# Altium integrated library T1_Card.IntLib: 128 symbols (part 1 of 3)
Pins are listed as number, name and electrical type; pins without a type are passive.

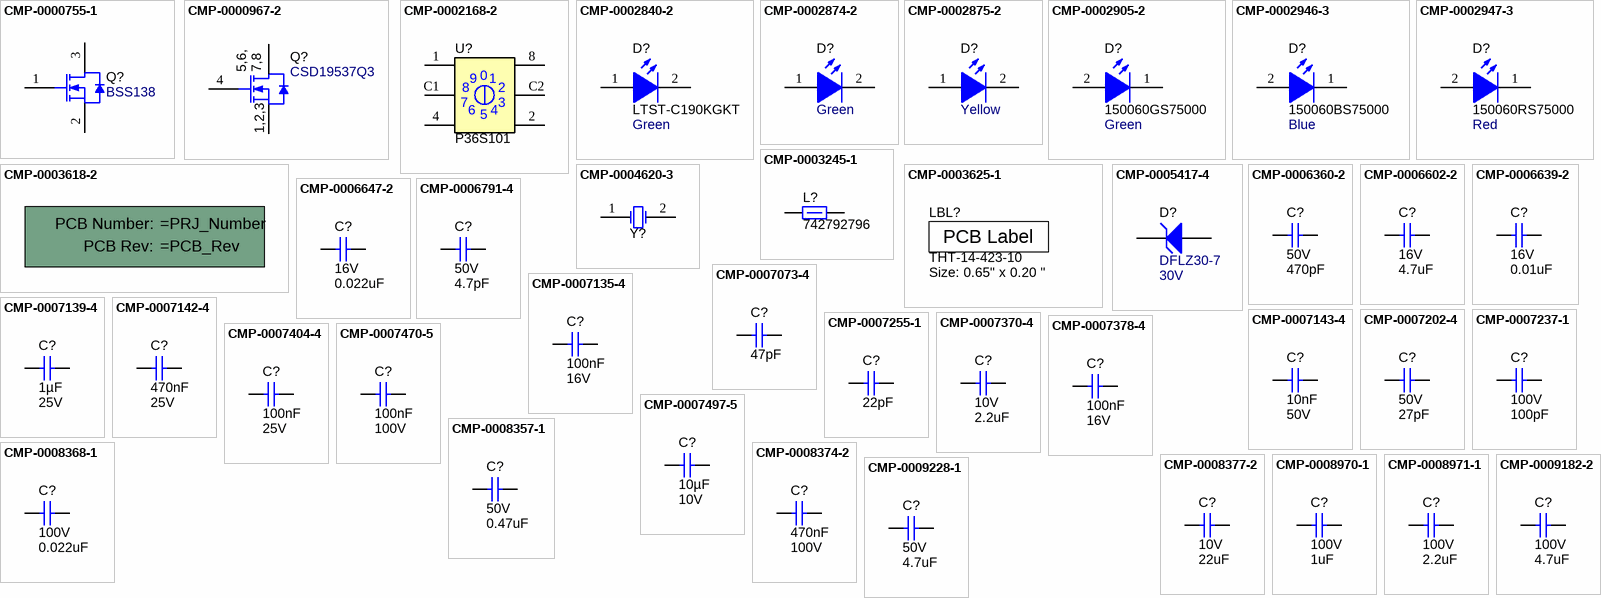
[diagram p0: symbols CMP-0000755-1 to CMP-0009228-1]

## CMP-0000755-1
designator Q?, comment BSS138
MOSFET, N-CH, 50 V, 0.22 A, SOT-23; Alternate Manufacturer: None; Manufacturer: Fairchild Semiconductor; SizeZ_mm: 1.1; ChType: N; Value2: 1.7 nC; VdsMax_V: 50V; SizeX_mm: 2.5; SizeY_mm: 3; Vgs_V: 20V; Value: 50V; Rdson45_ohm: 6; SizeArea_mm2: 7.5; AEC Category: Q101; IdsMax_A: 220mA; SizeAreaWB_mm2: 14; U/M: EA; QgTyp_nC: 1.7; Supplier 2: Newark; Supplier 3: Mouser; Supplier 1: Digi-Key; Supplier Part Number 1: BSS138CT-ND; Supplier Part Number 2: 58K8769; PartNumber: BSS138; ComponentLink1Description: Datasheet link; LatestRevisionDate: 2017-03-09; ComponentLink1URL: http://www.fairchildsemi.com/ds/BS/BSS138.pdf; CompType: MOSFET; PackageReference: SOT-23; LatestRevisionNote: Added parts.; Publisher: Texas Instruments; AEC Qualified: ?; Published: 2008-06-19; Supplier Part Number 3: 512-BSS138; RoHS: Y; MountType: SMT
footprint SOT-23 (SOT23, 3-Leads, Body 2.9x1.3mm, Pitch 0.95mm, Lead Span 2.5mm, IPC Medium Density)
footprint SOT-23L (SOT23, 3-Leads, Body 2.9x1.3mm, Pitch 0.95mm, Lead Span 2.5mm, IPC High Density)
footprint SOT-23M (SOT23, 3-Leads, Body 2.9x1.3mm, Pitch 0.95mm, Lead Span 2.5mm, IPC Low Density)
pins: 1 G, 2 S, 3 D

## CMP-0000967-2
designator Q?, comment CSD19537Q3
MOSFET, N-CH, 100 V, 50 A, DQG0008A (VSON-CLIP-8); Alternate Manufacturer: None; Manufacturer: Texas Instruments; SizeZ_mm: 1.1; ChType: N; Value2: 16 nC; VdsMax_V: 100V; SizeX_mm: 3.3; Vgs_V: 20V; QgTyp_nC: 16; Value: 100V; SizeArea_mm2: 10.89; AEC Category: Q101; IdsMax_A: 50A; SizeAreaWB_mm2: 18.49; U/M: EA; Supplier 2: Mouser; Supplier 1: Digi-Key; Supplier Part Number 1: CSD19537Q3-ND; Supplier Part Number 2: 595-CSD19537Q3; PartNumber: CSD19537Q3; ComponentLink1Description: Datasheet link; LatestRevisionDate: 2017-03-09; SizeY_mm: 3.3; CompType: MOSFET; LatestRevisionNote: Added parts.; Publisher: Texas Instruments; AEC Qualified: N; Published: 2008-06-19; RoHS: Y; PackageReference: DQG0008A; MountType: SMT; ComponentLink1URL: http://www.ti.com/lit/ds/symlink/csd19537q3.pdf
footprint DQG0008A (SMD, 8-Leads, Body 3.3x3.3mm, Pitch 0.65mm)
footprint DQG0008A_NV (SMD, 8-Leads, Body 3.3x3.3mm, Pitch 0.65mm)
pins: 1 S, 2 S, 3 S, 4 G, 5 D, 6 D, 7 D, 8 D, 9 D
text: 5,6,; 7,8; 1,2,3

## CMP-0002168-2
designator U?, comment P36S101
Switch, Rotary dip, 10POS, BCD, 24V, SMT; Manufacturer: APEM; CurrentRating_mA: 100A; PositionCount: 10; Supplier 2: Newark; Supplier 3: Mouser; Supplier 1: Digi-Key; Supplier Part Number 1: 679-1953-ND; Supplier Part Number 2: 92K8405; Supplier Part Number 3: 642-P36S101; PartNumber: P36S101; ComponentLink1Description: Datasheet URL; LatestRevisionDate: 2017-03-09; CompType: Switch; PackageReference: Switch, 7.4x3.8x7.4mm; Publisher: Texas Instruments; Circuit: BCD; VDC_V: 24V; RoHS: Y; Orientation: Top Actuated; MountType: SMT; ComponentLink1URL: http://www.apem.com/files/apem/brochures/P36.pdf
footprint Apem_P36S10x (Apem Inc.)
pins: 1, 2, 4, 8, C1, C2
text: 0; 9; 7; 3; 6; 5

## CMP-0002840-2
designator D?, comment LTST-C190KGKT  value Green
LED, Green, SMD; Manufacturer: Lite-On; Value1: W; Io_A: 30mA; Value2: 2V; Tjmax_C: 85°C; Type: AlInGaP; PartNumber: LTST-C190KGKT; MountType: SMT; CompType: LED; Color: green; ComponentLink1Description: Datasheet link; RoHS: Y; ComponentLink1URL: http://optoelectronics.liteon.com/en-us/api/DwonloadFileHandler.ashx?txtSpecNo=DS22-2000-074&txtPartNo=LTST-C190KGKT; Vf_V: 2V; PackageReference: 1.6x0.8x0.8mm
footprint LED_LTST-C190_G (Lite-On)
pins: 1 A, 2 K

## CMP-0002874-2
designator D?, comment value Green  (hidden comment: LG L29K-G2J1-24-Z)
LED, Green, SMD; Manufacturer: OSRAM; Io_A: 2mA; Value2: 1.7V; Value1: W; Tjmax_C: 110°C; RoHS: Y; PartNumber: LG L29K-G2J1-24-Z; Color: green; Type: ?; PackageReference: 1.7x0.65x0.8mm; ComponentLink1URL: http://www.osram-os.com/Graphics/XPic2/00077107_0.pdf; ComponentLink1Description: Datasheet link; Vf_V: 1.7V; CompType: LED; MountType: SMT
footprint LG L29K_GREEN (OSRAM)
pins: 1 A, 2 K

## CMP-0002875-2
designator D?, comment value Yellow  (hidden comment: LY L29K-J1K2-26-Z)
LED, Yellow, SMD; Manufacturer: OSRAM; Tjmax_C: 110°C; Value1: W; Value2: 1.8V; Io_A: 2mA; RoHS: Y; PackageReference: LED, 1.3x0.65x0.8mm; ComponentLink1URL: http://www.osram-os.com/Graphics/XPic1/00077106_0.pdf/LY%20%20%20%20%20%20L29K%20-%20SMARTLED%200603.pdf; CompType: LED; PartNumber: LY L29K-J1K2-26-Z; Color: yellow; Type: ?; Vf_V: 1.8V; ComponentLink1Description: Datasheet link; MountType: SMT
footprint LY L29K_Yellow (OSRAM)
pins: 1 A, 2 K

## CMP-0002905-2
designator D?, comment 150060GS75000  value Green
LED, Green, SMD; Manufacturer: Wurth Elektronik; Value1: W; Type: InGaN; Value2: 3.2V; Io_A: 20mA; Angle: 140; Tjmax_C: 85°C; Color: Green; Vf_V: 3.2V; PartNumber: 150060GS75000; ComponentLink1Description: Datasheet link; ComponentLink1URL: http://katalog.we-online.de/led/datasheet/150060GS75000.pdf; MountType: SMT; PackageReference: LED_0603; CompType: LED; RoHS: Y
footprint WL-SMCW_GREEN (WURTH)
pins: 1 K, 2 A

## CMP-0002946-3
designator D?, comment 150060BS75000  value Blue
LED, Blue, SMD; Manufacturer: Wurth Elektronik; Power_TotalModule: 105mW; Angle: 140; Tjmax_C: 85°C; Vf_V: 3.2V; Io_A: 30mA; Value1: 0.105W; Vr_V: 5V; Type: InGaN; CompType: LED; Color: Blue; RoHS: Y; PackageReference: LED_0603; MountType: SMT; PartNumber: 150060BS75000; ComponentLink1URL: http://katalog.we-online.de/led/datasheet/150060BS75000.pdf; Value2: 3.2V; ComponentLink1Description: Datasheet link
footprint WL-SMCW_Blue (SMD, 2-Leads, Body 1.6x0.8mm)
pins: 1 K, 2 A

## CMP-0002947-3
designator D?, comment 150060RS75000  value Red
LED, Red, SMD; Manufacturer: Wurth Elektronik; Value1: 0.072W; Vf_V: 2V; Angle: 140; Tjmax_C: 85°C; Type: AlInGaP; Vr_V: 5V; Io_A: 30mA; Power_TotalModule: 72mW; RoHS: Y; Color: Red; ComponentLink1Description: Datasheet link; PackageReference: LED_0603; ComponentLink1URL: http://katalog.we-online.de/led/datasheet/150060RS75000.pdf; Value2: 2V; MountType: SMT; CompType: LED; PartNumber: 150060RS75000
footprint WL-SMCW_RED (WURTH)
pins: 1 K, 2 A

## CMP-0003245-1
designator L?, comment 742792796
Ferrite Bead, 1000 ohm @ 100 MHz, 0.2 A, 0402; Manufacturer: Wurth Elektronik; Ztyp@1GHz_Ohm: 293.136; ZTyp@100MHz_Ohm: 1k; SizeAreaWB_mm2: 3; DCR_ohm: 1.5; Value1: 1.5 ohm; Imax_A: 200mA; SizeZ_mm: 0.6; SizeX_mm: 1; SizeY_mm: 0.5; Value2: 0.2A; ComponentLink1URL: http://katalog.we-online.de/pbs/datasheet/742792796.pdf; Supplier Part Number 2: 710-742792796; Publisher: Texas Instruments; Supplier 2: Mouser; Published: 2014-04-30; RoHS: Y; MountType: SMT; Value: 1000 ohm; Supplier 1: Digi-Key; PackageReference: 0402; SizeArea_mm2: 0.5; CompType: Ferrite Bead; LatestRevisionDate: 2017-03-09; PartNumber: 742792796; ComponentLink1Description: Datasheet link; Supplier Part Number 1: 732-2132-1-ND; ValueDisplayed: 1000 ohm
footprint 0402 (0402 from SM-752 data)
footprint 0402S (Based on C0402S footprint from PADS legacy)
footprint 0402L (0402 from SM-752 data)
footprint 0402M (0402 from SM-752 data)
pins: 1, 2

## CMP-0003618-2
designator !PCB?, comment Printed Circuit Board  (value not drawn)  (mechanical)
Manufacturer: Any; CompType: PCB; PartNumber: =PRJ_Number; RoHS: O; MountType: N/A; Publisher: Texas Instruments; LatestRevisionDate: 2017-03-09; Key: PCB
1 alternate drawing of the same symbol
text: PCB Number:; PCB Rev:

## CMP-0003625-1
designator LBL?, comment THT-14-423-10  Note: Size: 0.65" x 0.20 "
Thermal Transfer Printable Labels, 0.650" W x 0.200" H - 10,000 per roll; Manufacturer: Brady; CompType: Label; ClassName: Label; PartNumber: THT-14-423-10; RoHS: Y; PackageReference: PCB Label 0.650 x 0.200 inch; MountType: N/A; ComponentLink1Description: Web Page; ComponentLink1URL: http://www.bradyid.com/bradyid/pdpv/THT-14-423-10.html; Publisher: Texas Instruments; LatestRevisionDate: 2017-03-09; Supplier 1: Newark; Supplier Part Number 1: 97C5133; Supplier 2: Farnell; Supplier Part Number 2: 2065596; Key: THT-14-423-10
footprint Label_650x200 (Thermal Transfer Label)
text: PCB Label

## CMP-0004620-3
designator Y?, comment ABM3-25.000MHZ-D2Y-T  (value not drawn)
Crystal, 25 MHz, 18 pF, SMD; Manufacturer: Abracon Corporation; TaMin_C: -40°C; Frequency Stability: +/-30ppm; Frequency_Fixed: 25MHz; TaMax_C: 85°C; Supplier Part Number 2: 77R1477; Supplier 2: Newark; Supplier Part Number 3: 815-ABM3-25-D2Y-T; Supplier 3: Mouser; RoHS: E; MountType: SMT; Supplier 1: Digi-Key; PackageReference: ABM3; CompType: Crystal; PartNumber: ABM3-25.000MHZ-D2Y-T; ComponentLink1Description: Datasheet Link; Supplier Part Number 1: 535-10645-1-ND; ComponentLink1URL: http://www.abracon.com/Resonators/abm3.pdf; REACh: Y
footprint XTAL_ABM3 (Abracon recommended land pattern 12.28.10)
pins: 1 OSC1, 2 OSC2

## CMP-0005417-4
designator D?, comment DFLZ30-7  value 30V
Diode, Zener, 30 V, 1 W, PowerDI123; Manufacturer: Diodes Inc.; SizeX_mm: 3.7; Power_W: 1W; SizeY_mm: 1.78; AEC Category: Q101; RJA_CperW: 110; SizeArea_mm2: 6.586; SizeZ_mm: 0.98; SizeAreaWB_mm2: 13.066; AEC Qualified: ?; ComponentLink1Description: Datasheet link; MountType: SMT; Vz_V: 30V; Value1: 1W; ComponentLink1URL: http://www.diodes.com/datasheets/ds30464.pdf; PartNumber: DFLZ30-7; CompType: Zener; PackageReference: PowerDI123; RoHS: Y
footprint PowerDI123 (Diodes Inc recommended land pattern, document number DS30628 Rev. 6-2)
pins: 1 K, 2 A

## CMP-0006360-2
designator C?, comment VDC_V: 50V  ValueDisplayed: 470pF  (hidden comment: GCM155R71H471KA37D)
CAP, CERM, 470 pF, 50 V, +/- 10%, X7R, AEC-Q200 Grade 1, 0402; Manufacturer: MuRata; TaMin_C: -55°C; Polarized: N; SizeAreaWB_mm2: 3; Value1: Unknown; U/M: EA; Value: 470pF; TaMax_C: 125°C; SizeZ_mm: 0.6; SizeX_mm: 1; SizeY_mm: 0.5; Cap_Case: 0402; CompType: Capacitor; AEC Qualified: Y; AEC Category: Q200; Supplier Part Number 2: 81-GCM155R71H471K37D; Publisher: Texas Instruments; Supplier 2: Mouser; TempCo: X7R; Published: 2008-06-19; RoHS: Y; MountType: SMT; Supplier 1: Digi-Key; PackageReference: 0402; Tolerance_%: 10%; Value2: 50V; SizeArea_mm2: 0.5; LatestRevisionDate: 2017-03-09; PartNumber: GCM155R71H471KA37D; Cap_F: 470pF; ComponentLink1Description: Datasheet link; AEC Grade: 1; Supplier Part Number 1: 490-4913-1-ND; Technology: Ceramic; ComponentLink1URL: http://psearch.murata.com/capacitor/product/GCM155R71H471KA37%23.pdf
footprint 0402 (0402 from SM-752 data)
footprint 0402S (Based on C0402S footprint from PADS legacy)
footprint 0402L (0402 from SM-752 data)
footprint 0402M (0402 from SM-752 data)
pins: 1, 2

## CMP-0006602-2
designator C?, comment VDC_V: 16V  ValueDisplayed: 4.7uF  (hidden comment: GRM155R61C475ME15)
CAP, CERM, 4.7 uF, 16 V, +/- 20%, X5R, 0402; Manufacturer: MuRata; TaMin_C: -55°C; Polarized: N; SizeAreaWB_mm2: 3; Value1: Unknown; U/M: EA; Value: 4.7uF; TaMax_C: 85°C; SizeZ_mm: 0.6; SizeX_mm: 1; SizeY_mm: 0.5; Cap_Case: 0402; CompType: Capacitor; Cap_F: 4.7µF; AEC Category: Q200; Publisher: Texas Instruments; TempCo: X5R; Published: 2008-06-19; RoHS: Y; MountType: SMT; PackageReference: 0402; Tolerance_%: 20%; Value2: 16V; SizeArea_mm2: 0.5; LatestRevisionDate: 2017-03-09; PartNumber: GRM155R61C475ME15; AEC Qualified: ?; ComponentLink1Description: Datasheet link; Technology: Ceramic; ComponentLink1URL: https://sps06.itg.ti.com/sites/KMS/crossdivteams/altium/docs/ComponentDatasheets/CIN_GRM155R61C475ME15 Electrical Characteristics Data.pdf
footprint 0402 (0402 from SM-752 data)
footprint 0402S (Based on C0402S footprint from PADS legacy)
footprint 0402L (0402 from SM-752 data)
footprint 0402M (0402 from SM-752 data)
pins: 1, 2

## CMP-0006639-2
designator C?, comment VDC_V: 16V  ValueDisplayed: 0.01uF  (hidden comment: GRM155R71C103KA01D)
CAP, CERM, 0.01 uF, 16 V, +/- 10%, X7R, 0402; Manufacturer: MuRata; TaMin_C: -55°C; Polarized: N; SizeAreaWB_mm2: 3; Value1: Unknown; U/M: EA; Value: 0.01uF; TaMax_C: 125°C; SizeZ_mm: 0.6; SizeX_mm: 1; SizeY_mm: 0.5; Cap_Case: 0402; CompType: Capacitor; Cap_F: 10nF; AEC Category: Q200; Supplier Part Number 2: 14T3279; Publisher: Texas Instruments; Supplier 2: Newark; Supplier Part Number 3: 81-GRM36X103K16; TempCo: X7R; Supplier 3: Mouser; Published: 2008-06-19; RoHS: Y; MountType: SMT; Supplier 1: Digi-Key; PackageReference: 0402; Tolerance_%: 10%; Value2: 16V; SizeArea_mm2: 0.5; LatestRevisionDate: 2017-03-09; PartNumber: GRM155R71C103KA01D; AEC Qualified: ?; ComponentLink1Description: Datasheet link; Supplier Part Number 1: 490-1313-1-ND; Technology: Ceramic; ComponentLink1URL: http://search.murata.co.jp/Ceramy/PnsearchViewAction.do?HnOFG=ON&HnNFG=ON&SEL_CNT=50&sLang=en&sKey=GRM155R71C103KA01D&x=9&y=9&search=startwith
footprint 0402 (0402 from SM-752 data)
footprint 0402S (Based on C0402S footprint from PADS legacy)
footprint 0402L (0402 from SM-752 data)
footprint 0402M (0402 from SM-752 data)
pins: 1, 2

## CMP-0006647-2
designator C?, comment VDC_V: 16V  ValueDisplayed: 0.022uF  (hidden comment: GRM155R71C223KA01D)
CAP, CERM, 0.022 uF, 16 V, +/- 10%, X7R, 0402; Manufacturer: MuRata; TaMin_C: -55°C; Polarized: N; SizeAreaWB_mm2: 3; Value1: Unknown; U/M: EA; TaMax_C: 125°C; SizeZ_mm: 0.6; SizeX_mm: 1; SizeY_mm: 0.5; Cap_Case: 0402; CompType: Capacitor; Cap_F: 22nF; AEC Category: Q200; Supplier Part Number 2: 81-GRM36X223K16; Publisher: Texas Instruments; Supplier 2: Mouser; Supplier Part Number 3: 1828865; TempCo: X7R; Supplier 3: Farnell; Published: 2008-06-19; RoHS: Y; MountType: SMT; Value: 0.022uF; Supplier 1: Digi-Key; PackageReference: 0402; Tolerance_%: 10%; Value2: 16V; SizeArea_mm2: 0.5; LatestRevisionDate: 2017-03-09; PartNumber: GRM155R71C223KA01D; AEC Qualified: ?; ComponentLink1Description: Datasheet link; Supplier Part Number 1: 490-3256-1-ND; Technology: Ceramic; ComponentLink1URL: http://search.murata.co.jp/Ceramy/PnsearchViewAction.do?HnOFG=ON&HnNFG=ON&SEL_CNT=50&sLang=en&sKey=GRM155R71C223KA01D&x=9&y=9&search=startwith
footprint 0402 (0402 from SM-752 data)
footprint 0402S (Based on C0402S footprint from PADS legacy)
footprint 0402L (0402 from SM-752 data)
footprint 0402M (0402 from SM-752 data)
pins: 1, 2

## CMP-0006791-4
designator C?, comment VDC_V: 50V  ValueDisplayed: 4.7pF  (hidden comment: 06035A4R7CAT2A)
CAP, CERM, 4.7 pF, 50 V, +/- 5%, C0G/NP0, 0603; Manufacturer: AVX; TaMin_C: -55°C; ESR_ohm: 0.633; Polarized: N; SizeAreaWB_mm2: 4.68; Value1: 0.633 ohm; U/M: EA; Value: 4.7pF; TaMax_C: 125°C; SizeZ_mm: 1; SizeX_mm: 1.6; SizeY_mm: 0.8; Cap_Case: 0603; SizeArea_mm2: 1.28; CompType: Capacitor; AEC Category: Q200; Supplier Part Number 2: 581-06035A4R7C; Publisher: Texas Instruments; Supplier 2: Mouser; Supplier Part Number 3: 1833866; TempCo: C0G/NP0; Supplier 3: Farnell; Published: 2008-06-19; RoHS: Y; MountType: SMT; Supplier 1: Digi-Key; PackageReference: 0603; Tolerance_%: 5%; Value2: 50V; LatestRevisionDate: 2017-03-09; PartNumber: 06035A4R7CAT2A; AEC Qualified: N; Cap_F: 4.7pF; ComponentLink1Description: Datasheet link; AEC Grade: N/A; Supplier Part Number 1: 478-1159-1-ND; Technology: Ceramic; ComponentLink1URL: http://datasheets.avx.com/C0GNP0-Dielectric.pdf
footprint 0603 (0603 from SM-752 data)
footprint 0603_HV (Ernesto recommended land pattern.  26 mil between pads.)
footprint 0603L (0603 from SM-752 data)
footprint 0603S
footprint 0603M (0603 from SM-752 data)
pins: 1, 2

## CMP-0007073-4
designator C?, comment ValueDisplayed: 47pF  (hidden comment: CGA3E2C0G1H470J080AA)
CAP, CERM, 47 pF, 50 V, +/- 5%, C0G/NP0, AEC-Q200 Grade 1, 0603; Manufacturer: TDK; TaMin_C: -55°C; Polarized: N; SizeAreaWB_mm2: 4.68; Value1: Unknown; U/M: EA; Value: 47pF; TaMax_C: 125°C; SizeZ_mm: 1; SizeX_mm: 1.6; SizeY_mm: 0.8; Cap_Case: 0603; Value2: 50V; SizeArea_mm2: 1.28; CompType: Capacitor; AEC Qualified: Y; AEC Category: Q200; Supplier Part Number 2: 04X3153; Publisher: Texas Instruments; Supplier 2: Newark; Supplier Part Number 3: 810-CGA3E2C0G1H470J; TempCo: C0G/NP0; Supplier 3: Mouser; Published: 2008-06-19; RoHS: Y; MountType: SMT; Supplier 1: Digi-Key; PackageReference: 0603; Tolerance_%: 5%; LatestRevisionDate: 2017-03-09; PartNumber: CGA3E2C0G1H470J080AA; Cap_F: 47pF; VDC_V: 50V; ComponentLink1Description: Datasheet link; AEC Grade: 1; Supplier Part Number 1: 445-5636-1-ND; Technology: Ceramic; ComponentLink1URL: https://product.tdk.com/info/en/catalog/datasheets/mlcc_automotive_general_en.pdf
footprint 0603 (0603 from SM-752 data)
footprint 0603_HV (Ernesto recommended land pattern.  26 mil between pads.)
footprint 0603L (0603 from SM-752 data)
footprint 0603S
footprint 0603M (0603 from SM-752 data)
pins: 1, 2

## CMP-0007135-4
designator C?, comment Cap_F: 100nF  VDC_V: 16V  (hidden comment: GCM188R71C104KA37J)
CAP, CERM, 0.1 uF, 16 V, +/- 10%, X7R, AEC-Q200 Grade 1, 0603; Manufacturer: MuRata; TaMin_C: -55°C; Polarized: N; SizeAreaWB_mm2: 4.68; Value1: Unknown; U/M: EA; Value: 0.1uF; TaMax_C: 125°C; SizeZ_mm: 1; SizeX_mm: 1.6; SizeY_mm: 0.8; Cap_Case: 0603; SizeArea_mm2: 1.28; CompType: Capacitor; AEC Qualified: Y; AEC Category: Q200; Supplier Part Number 2: 81-GCM188R71C104KA7J; Publisher: Texas Instruments; Supplier 2: Mouser; TempCo: X7R; Published: 2008-06-19; RoHS: Y; MountType: SMT; Supplier 1: Digi-Key; PackageReference: 0603; Tolerance_%: 10%; Value2: 16V; LatestRevisionDate: 2017-03-09; PartNumber: GCM188R71C104KA37J; ComponentLink1Description: Datasheet link; AEC Grade: 1; Supplier Part Number 1: 490-8015-1-ND; Technology: Ceramic; ValueDisplayed: 0.1uF; ComponentLink1URL: http://search.murata.co.jp/Ceramy/image/img/w_hinm/S0717E.pdf
footprint 0603 (0603 from SM-752 data)
footprint 0603_HV (Ernesto recommended land pattern.  26 mil between pads.)
footprint 0603L (0603 from SM-752 data)
footprint 0603S
footprint 0603M (0603 from SM-752 data)
pins: 1, 2

## CMP-0007139-4
designator C?, comment Cap_F: 1µF  VDC_V: 25V  (hidden comment: GCM188R71E105KA64D)
CAP, CERM, 1 uF, 25 V, +/- 10%, X7R, AEC-Q200 Grade 1, 0603; Manufacturer: MuRata; TaMin_C: -55°C; Polarized: N; SizeAreaWB_mm2: 4.68; Value1: Unknown; U/M: EA; Value: 1uF; TaMax_C: 125°C; SizeZ_mm: 1; SizeX_mm: 1.6; SizeY_mm: 0.8; Cap_Case: 0603; SizeArea_mm2: 1.28; CompType: Capacitor; AEC Qualified: Y; AEC Category: Q200; Supplier Part Number 2: 45Y5164; Publisher: Texas Instruments; Supplier 2: Newark; Supplier Part Number 3: 81-GCM188R71E105KA4D; TempCo: X7R; Supplier 3: Mouser; Published: 2008-06-19; RoHS: Y; MountType: SMT; Supplier 1: Digi-Key; PackageReference: 0603; Tolerance_%: 10%; Value2: 25V; LatestRevisionDate: 2017-03-09; PartNumber: GCM188R71E105KA64D; ComponentLink1Description: Datasheet link; AEC Grade: 1; Supplier Part Number 1: 490-10673-1-ND; Technology: Ceramic; ValueDisplayed: 1uF; ComponentLink1URL: http://psearch.en.murata.com/capacitor/product/GCM188R71E105KA64%23.pdf
footprint 0603 (0603 from SM-752 data)
footprint 0603_HV (Ernesto recommended land pattern.  26 mil between pads.)
footprint 0603L (0603 from SM-752 data)
footprint 0603S
footprint 0603M (0603 from SM-752 data)
pins: 1, 2

## CMP-0007142-4
designator C?, comment Cap_F: 470nF  VDC_V: 25V  (hidden comment: GCM188R71E474KA64D)
CAP, CERM, 0.47 uF, 25 V, +/- 10%, X7R, AEC-Q200 Grade 1, 0603; Manufacturer: MuRata; TaMin_C: -55°C; Polarized: N; SizeAreaWB_mm2: 4.68; Value1: Unknown; U/M: EA; Value: 0.47uF; TaMax_C: 125°C; SizeZ_mm: 1; SizeX_mm: 1.6; SizeY_mm: 0.8; Cap_Case: 0603; SizeArea_mm2: 1.28; CompType: Capacitor; AEC Qualified: Y; AEC Category: Q200; Supplier Part Number 2: 81-GCM188R71E474KA4D; Publisher: Texas Instruments; Supplier 2: Mouser; TempCo: X7R; Published: 2008-06-19; RoHS: Y; MountType: SMT; Supplier 1: Digi-Key; PackageReference: 0603; Tolerance_%: 10%; Value2: 25V; LatestRevisionDate: 2017-03-09; PartNumber: GCM188R71E474KA64D; ComponentLink1Description: Datasheet link; AEC Grade: 1; Supplier Part Number 1: 490-4776-1-ND; Technology: Ceramic; ValueDisplayed: 0.47uF; ComponentLink1URL: http://psearch.murata.com/capacitor/product/GCM188R71E474KA64%23.pdf
footprint 0603 (0603 from SM-752 data)
footprint 0603_HV (Ernesto recommended land pattern.  26 mil between pads.)
footprint 0603L (0603 from SM-752 data)
footprint 0603S
footprint 0603M (0603 from SM-752 data)
pins: 1, 2

## CMP-0007143-4
designator C?, comment Cap_F: 10nF  VDC_V: 50V  (hidden comment: GCM188R71H103KA37D)
CAP, CERM, 0.01 uF, 50 V, +/- 10%, X7R, AEC-Q200 Grade 1, 0603; Manufacturer: MuRata; TaMin_C: -55°C; Polarized: N; SizeAreaWB_mm2: 4.68; Value1: Unknown; U/M: EA; Value: 0.01uF; TaMax_C: 125°C; SizeZ_mm: 1; SizeX_mm: 1.6; SizeY_mm: 0.8; Cap_Case: 0603; SizeArea_mm2: 1.28; CompType: Capacitor; AEC Qualified: Y; AEC Category: Q200; Supplier Part Number 2: 45Y5166; Publisher: Texas Instruments; Supplier 2: Newark; Supplier Part Number 3: 81-GCM188R71H103KA7D; TempCo: X7R; Supplier 3: Mouser; Published: 2008-06-19; RoHS: Y; MountType: SMT; Supplier 1: Digi-Key; PackageReference: 0603; Tolerance_%: 10%; Value2: 50V; LatestRevisionDate: 2017-03-09; PartNumber: GCM188R71H103KA37D; ComponentLink1Description: Datasheet link; AEC Grade: 1; Supplier Part Number 1: 490-4778-1-ND; Technology: Ceramic; ValueDisplayed: 0.01uF; ComponentLink1URL: http://psearch.en.murata.com/capacitor/product/GCM188R71H103KA37%23.pdf
footprint 0603 (0603 from SM-752 data)
footprint 0603_HV (Ernesto recommended land pattern.  26 mil between pads.)
footprint 0603L (0603 from SM-752 data)
footprint 0603S
footprint 0603M (0603 from SM-752 data)
pins: 1, 2

## CMP-0007202-4
designator C?, comment VDC_V: 50V  ValueDisplayed: 27pF  (hidden comment: GRM1885C1H270JA01D)
CAP, CERM, 27 pF, 50 V, +/- 5%, C0G/NP0, 0603; Manufacturer: MuRata; TaMin_C: -55°C; Polarized: N; SizeAreaWB_mm2: 4.68; Value1: Unknown; U/M: EA; Value: 27pF; TaMax_C: 125°C; SizeZ_mm: 1; SizeX_mm: 1.6; SizeY_mm: 0.8; Cap_Case: 0603; SizeArea_mm2: 1.28; CompType: Capacitor; AEC Category: Q200; Supplier Part Number 2: 81-GRM1885C1H270JA01; Publisher: Texas Instruments; Supplier 2: Mouser; Supplier Part Number 3: 1828909; TempCo: C0G/NP0; Supplier 3: Farnell; Published: 2008-06-19; RoHS: Y; MountType: SMT; Supplier 1: Digi-Key; PackageReference: 0603; Tolerance_%: 5%; Value2: 50V; LatestRevisionDate: 2017-03-09; PartNumber: GRM1885C1H270JA01D; AEC Qualified: ?; Cap_F: 27pF; ComponentLink1Description: Datasheet link; Supplier Part Number 1: 490-1413-1-ND; Technology: Ceramic; ComponentLink1URL: http://search.murata.co.jp/Ceramy/PnsearchViewAction.do?HnOFG=ON&HnNFG=ON&SEL_CNT=50&sLang=en&sKey=GRM1885C1H270JA01D&x=9&y=9&search=startwith
footprint 0603 (0603 from SM-752 data)
footprint 0603_HV (Ernesto recommended land pattern.  26 mil between pads.)
footprint 0603L (0603 from SM-752 data)
footprint 0603S
footprint 0603M (0603 from SM-752 data)
pins: 1, 2

## CMP-0007237-1
designator C?, comment VDC_V: 100V  ValueDisplayed: 100pF  (hidden comment: GRM1885C2A101JA01D)
CAP, CERM, 100 pF, 100 V, +/- 5%, C0G/NP0, 0603; Manufacturer: MuRata; TaMin_C: -55°C; Polarized: N; SizeAreaWB_mm2: 4.68; Value1: Unknown; U/M: EA; Value: 100pF; TaMax_C: 125°C; SizeZ_mm: 1; SizeX_mm: 1.6; SizeY_mm: 0.8; Cap_Case: 0603; SizeArea_mm2: 1.28; CompType: Capacitor; AEC Category: Q200; ComponentLink1URL: http://search.murata.co.jp/Ceramy/PnsearchViewAction.do?HnOFG=ON&HnNFG=ON&SEL_CNT=50&sLang=en&sKey=GRM1885C2A101JA01D&x=9&y=9&search=startwith; Supplier Part Number 2: 81-GRM1885C2A101JA01; Publisher: Texas Instruments; Supplier 2: Mouser; Supplier Part Number 3: 1828919; TempCo: C0G/NP0; Supplier 3: Farnell; Published: 2008-06-19; RoHS: Y; MountType: SMT; Supplier 1: Digi-Key; PackageReference: 0603; Tolerance_%: 5%; Value2: 100V; LatestRevisionDate: 2017-03-09; PartNumber: GRM1885C2A101JA01D; AEC Qualified: ?; Cap_F: 100pF; ComponentLink1Description: Datasheet link; Supplier Part Number 1: 490-1351-1-ND; Technology: Ceramic
footprint 0603 (0603 from SM-752 data)
footprint 0603_HV (Ernesto recommended land pattern.  26 mil between pads.)
footprint 0603L (0603 from SM-752 data)
footprint 0603S
footprint 0603M (0603 from SM-752 data)
pins: 1, 2

## CMP-0007255-1
designator C?, comment ValueDisplayed: 22pF  (hidden comment: GRM1885C2A220JA01D)
CAP, CERM, 22 pF, 100 V, +/- 5%, C0G/NP0, 0603; Manufacturer: MuRata; TaMin_C: -55°C; Polarized: N; SizeAreaWB_mm2: 4.68; Value1: Unknown; U/M: EA; Value: 22pF; TaMax_C: 125°C; SizeZ_mm: 1; SizeX_mm: 1.6; SizeY_mm: 0.8; Cap_Case: 0603; Value2: 100V; SizeArea_mm2: 1.28; CompType: Capacitor; AEC Category: Q200; ComponentLink1URL: http://search.murata.co.jp/Ceramy/PnsearchViewAction.do?HnOFG=ON&HnNFG=ON&SEL_CNT=50&sLang=en&sKey=GRM1885C2A220JA01D&x=9&y=9&search=startwith; Supplier Part Number 2: 81-GRM1885C2A220JA01; Publisher: Texas Instruments; Supplier 2: Mouser; TempCo: C0G/NP0; Published: 2008-06-19; RoHS: Y; MountType: SMT; Supplier 1: Digi-Key; PackageReference: 0603; Tolerance_%: 5%; LatestRevisionDate: 2017-03-09; AEC Qualified: ?; Cap_F: 22pF; VDC_V: 100V; ComponentLink1Description: Datasheet link; Supplier Part Number 1: 490-1335-1-ND; PartNumber: GRM1885C2A220JA01D; Technology: Ceramic
footprint 0603 (0603 from SM-752 data)
footprint 0603_HV (Ernesto recommended land pattern.  26 mil between pads.)
footprint 0603L (0603 from SM-752 data)
footprint 0603S
footprint 0603M (0603 from SM-752 data)
pins: 1, 2

## CMP-0007370-4
designator C?, comment VDC_V: 10V  ValueDisplayed: 2.2uF  (hidden comment: GRM188R71A225KE15D)
CAP, CERM, 2.2 uF, 10 V, +/- 10%, X7R, 0603; Manufacturer: MuRata; TaMin_C: -55°C; ESR_ohm: 9m; Polarized: N; SizeAreaWB_mm2: 4.68; Value1: 0.009 ohm; U/M: EA; Value: 2.2uF; TaMax_C: 125°C; SizeZ_mm: 1; SizeX_mm: 1.6; SizeY_mm: 0.8; Cap_Case: 0603; SizeArea_mm2: 1.28; CompType: Capacitor; Cap_F: 2.2µF; AEC Category: Q200; Supplier Part Number 2: 81-GRM188R71A225KE15; Publisher: Texas Instruments; Supplier 2: Mouser; Supplier Part Number 3: 1797012; TempCo: X7R; Supplier 3: Farnell; Published: 2008-06-19; RoHS: Y; MountType: SMT; Supplier 1: Digi-Key; PackageReference: 0603; Tolerance_%: 10%; Value2: 10V; LatestRevisionDate: 2017-03-09; PartNumber: GRM188R71A225KE15D; AEC Qualified: ?; ComponentLink1Description: Datasheet link; Supplier Part Number 1: 490-4520-1-ND; Technology: Ceramic; ComponentLink1URL: http://search.murata.co.jp/Ceramy/PnsearchViewAction.do?HnOFG=ON&HnNFG=ON&SEL_CNT=50&sLang=en&sKey=GRM188R71A225KE15D&x=9&y=9&search=startwith
footprint 0603 (0603 from SM-752 data)
footprint 0603_HV (Ernesto recommended land pattern.  26 mil between pads.)
footprint 0603L (0603 from SM-752 data)
footprint 0603S
footprint 0603M (0603 from SM-752 data)
pins: 1, 2

## CMP-0007378-4
designator C?, comment Cap_F: 100nF  VDC_V: 16V  (hidden comment: GRM188R71C104KA01D)
CAP, CERM, 0.1 uF, 16 V, +/- 10%, X7R, 0603; Manufacturer: MuRata; TaMin_C: -55°C; Polarized: N; SizeAreaWB_mm2: 4.68; Value1: Unknown; U/M: EA; Value: 0.1uF; TaMax_C: 125°C; SizeZ_mm: 1; SizeX_mm: 1.6; SizeY_mm: 0.8; Cap_Case: 0603; SizeArea_mm2: 1.28; CompType: Capacitor; AEC Category: Q200; Supplier Part Number 2: 81-GRM39X104K16; Publisher: Texas Instruments; Supplier 2: Mouser; Supplier Part Number 3: 1828890; TempCo: X7R; Supplier 3: Farnell; Published: 2008-06-19; RoHS: Y; MountType: SMT; Supplier 1: Digi-Key; PackageReference: 0603; Tolerance_%: 10%; Value2: 16V; LatestRevisionDate: 2017-03-09; PartNumber: GRM188R71C104KA01D; AEC Qualified: ?; ComponentLink1Description: Datasheet link; Supplier Part Number 1: 490-1532-1-ND; Technology: Ceramic; ValueDisplayed: 0.1uF; ComponentLink1URL: http://search.murata.co.jp/Ceramy/PnsearchViewAction.do?HnOFG=ON&HnNFG=ON&SEL_CNT=50&sLang=en&sKey=GRM188R71C104KA01D&x=9&y=9&search=startwith
footprint 0603 (0603 from SM-752 data)
footprint 0603_HV (Ernesto recommended land pattern.  26 mil between pads.)
footprint 0603L (0603 from SM-752 data)
footprint 0603S
footprint 0603M (0603 from SM-752 data)
pins: 1, 2

## CMP-0007404-4
designator C?, comment Cap_F: 100nF  VDC_V: 25V  (hidden comment: GRM188R71E104KA01D)
CAP, CERM, 0.1 uF, 25 V, +/- 10%, X7R, 0603; Manufacturer: MuRata; TaMin_C: -55°C; Polarized: N; SizeAreaWB_mm2: 4.68; Value1: Unknown; U/M: EA; Value: 0.1uF; TaMax_C: 125°C; SizeZ_mm: 1; SizeX_mm: 1.6; SizeY_mm: 0.8; Cap_Case: 0603; SizeArea_mm2: 1.28; CompType: Capacitor; AEC Category: Q200; Supplier Part Number 2: 81-GRM39X104K25; Publisher: Texas Instruments; Supplier 2: Mouser; Supplier Part Number 3: 1828899; TempCo: X7R; Supplier 3: Farnell; Published: 2008-06-19; RoHS: Y; MountType: SMT; Supplier 1: Digi-Key; PackageReference: 0603; Tolerance_%: 10%; Value2: 25V; LatestRevisionDate: 2017-03-09; PartNumber: GRM188R71E104KA01D; AEC Qualified: ?; ComponentLink1Description: Datasheet link; Supplier Part Number 1: 490-1524-1-ND; Technology: Ceramic; ValueDisplayed: 0.1uF; ComponentLink1URL: http://search.murata.co.jp/Ceramy/PnsearchViewAction.do?HnOFG=ON&HnNFG=ON&SEL_CNT=50&sLang=en&sKey=GRM188R71E104KA01D&x=9&y=9&search=startwith
footprint 0603 (0603 from SM-752 data)
footprint 0603_HV (Ernesto recommended land pattern.  26 mil between pads.)
footprint 0603L (0603 from SM-752 data)
footprint 0603S
footprint 0603M (0603 from SM-752 data)
pins: 1, 2

## CMP-0007470-5
designator C?, comment Cap_F: 100nF  VDC_V: 100V  (hidden comment: GRM188R72A104KA35J)
CAP, CERM, 0.1 uF, 100 V, +/- 10%, X7R, 0603; Manufacturer: MuRata; TaMin_C: -55°C; Polarized: N; SizeAreaWB_mm2: 4.68; Value1: Unknown; U/M: EA; Value: 0.1uF; TaMax_C: 125°C; SizeZ_mm: 1; SizeX_mm: 1.6; SizeY_mm: 0.8; Cap_Case: 0603; SizeArea_mm2: 1.28; CompType: Capacitor; AEC Category: Q200; Supplier Part Number 2: 81-GRM188R72A104KA5J; Publisher: Texas Instruments; Supplier 2: Mouser; TempCo: X7R; Published: 2008-06-19; RoHS: Y; MountType: SMT; Supplier 1: Digi-Key; PackageReference: 0603; Tolerance_%: 10%; Value2: 100V; LatestRevisionDate: 2017-03-09; PartNumber: GRM188R72A104KA35J; AEC Qualified: ?; ComponentLink1Description: Datasheet link; Supplier Part Number 1: 490-6439-1-ND; Technology: Ceramic; ValueDisplayed: 0.1uF; ComponentLink1URL: http://search.murata.co.jp/Ceramy/image/img/A01X/G101/ENG/GRM188R72A104KA35-01.pdf
footprint 0603 (0603 from SM-752 data)
footprint 0603_HV (Ernesto recommended land pattern.  26 mil between pads.)
footprint 0603L (0603 from SM-752 data)
footprint 0603S
footprint 0603M (0603 from SM-752 data)
pins: 1, 2

## CMP-0007497-5
designator C?, comment Cap_F: 10µF  VDC_V: 10V  (hidden comment: GRM188Z71A106MA73D)
CAP, CERM, 10 uF, 10 V, +/- 20%, X7R, 0603; Manufacturer: MuRata; TaMin_C: -55°C; Polarized: N; SizeAreaWB_mm2: 4.68; Value1: Unknown; U/M: EA; Value: 10uF; TaMax_C: 125°C; SizeZ_mm: 1; SizeX_mm: 1.6; SizeY_mm: 0.8; Cap_Case: 0603; SizeArea_mm2: 1.28; CompType: Capacitor; AEC Category: Q200; Publisher: Texas Instruments; TempCo: X7R; Published: 2008-06-19; RoHS: Y; MountType: SMT; Supplier 1: Mouser; PackageReference: 0603; Tolerance_%: 20%; Value2: 10V; LatestRevisionDate: 2017-03-09; PartNumber: GRM188Z71A106MA73D; AEC Qualified: N; ComponentLink1Description: Datasheet link; AEC Grade: N/A; Supplier Part Number 1: 81-GRM188Z71A106MA3D; Technology: Ceramic; ValueDisplayed: 10uF; ComponentLink1URL: http://psearch.en.murata.com/capacitor/product/GRM188Z71A106MA73%23.pdf
footprint 0603 (0603 from SM-752 data)
footprint 0603_HV (Ernesto recommended land pattern.  26 mil between pads.)
footprint 0603L (0603 from SM-752 data)
footprint 0603S
footprint 0603M (0603 from SM-752 data)
pins: 1, 2

## CMP-0008357-1
designator C?, comment VDC_V: 50V  ValueDisplayed: 0.47uF  (hidden comment: GRM21BR71H474KA88L)
CAP, CERM, 0.47 uF, 50 V, +/- 10%, X7R, 0805; Manufacturer: MuRata; TaMin_C: -55°C; Polarized: N; SizeAreaWB_mm2: 6.75; Value1: Unknown; U/M: EA; Value: 0.47uF; TaMax_C: 125°C; SizeZ_mm: 1.45; SizeX_mm: 2; SizeY_mm: 1.25; Cap_Case: 0805; SizeArea_mm2: 2.5; CompType: Capacitor; Cap_F: 470nF; AEC Category: Q200; ComponentLink1URL: http://search.murata.co.jp/Ceramy/PnsearchViewAction.do?HnOFG=ON&HnNFG=ON&SEL_CNT=50&sLang=en&sKey=GRM21BR71H474KA88L&x=9&y=9&search=startwith; Supplier Part Number 2: 81-GRM21BR71H474KA88; Publisher: Texas Instruments; Supplier 2: Mouser; Supplier Part Number 3: 1403966; TempCo: X7R; Supplier 3: Farnell; Published: 2008-06-19; RoHS: Y; MountType: SMT; Supplier 1: Digi-Key; PackageReference: 0805; Tolerance_%: 10%; Value2: 50V; LatestRevisionDate: 2017-03-09; PartNumber: GRM21BR71H474KA88L; AEC Qualified: ?; ComponentLink1Description: Datasheet link; Supplier Part Number 1: 490-3328-1-ND; Technology: Ceramic
footprint 0805_HV (0805 with 30mil clearance between pads)
footprint 0805M (0805 from SM-752 data)
footprint 0805 (0805 from SM-752 data)
footprint 0805L (0805 from SM-752 data)
footprint 0805_HV1 (Custom footprint based on analyzing multiple manufacturer recommendations)
pins: 1, 2

## CMP-0008368-1
designator C?, comment VDC_V: 100V  ValueDisplayed: 0.022uF  (hidden comment: GRM21BR72A223KA01L)
CAP, CERM, 0.022 uF, 100 V, +/- 10%, X7R, 0805; Manufacturer: MuRata; TaMin_C: -55°C; Polarized: N; SizeAreaWB_mm2: 6.75; Value1: Unknown; U/M: EA; TaMax_C: 125°C; SizeZ_mm: 1.45; SizeX_mm: 2; SizeY_mm: 1.25; Cap_Case: 0805; SizeArea_mm2: 2.5; CompType: Capacitor; Cap_F: 22nF; AEC Category: Q200; ComponentLink1URL: http://search.murata.co.jp/Ceramy/PnsearchViewAction.do?HnOFG=ON&HnNFG=ON&SEL_CNT=50&sLang=en&sKey=GRM21BR72A223KA01L&x=9&y=9&search=startwith; Supplier Part Number 2: 81-GRM21R72A223KA01L; Publisher: Texas Instruments; Supplier 2: Mouser; Supplier Part Number 3: 1403970; TempCo: X7R; Supplier 3: Farnell; Published: 2008-06-19; RoHS: Y; MountType: SMT; Value: 0.022uF; Supplier 1: Digi-Key; PackageReference: 0805; Tolerance_%: 10%; Value2: 100V; LatestRevisionDate: 2017-03-09; PartNumber: GRM21BR72A223KA01L; AEC Qualified: ?; ComponentLink1Description: Datasheet link; Supplier Part Number 1: 490-1658-1-ND; Technology: Ceramic
footprint 0805_HV (0805 with 30mil clearance between pads)
footprint 0805M (0805 from SM-752 data)
footprint 0805 (0805 from SM-752 data)
footprint 0805L (0805 from SM-752 data)
footprint 0805_HV1 (Custom footprint based on analyzing multiple manufacturer recommendations)
pins: 1, 2

## CMP-0008374-2
designator C?, comment Cap_F: 470nF  VDC_V: 100V  (hidden comment: GRM21BR72A474KA73L)
CAP, CERM, 0.47 uF, 100 V, +/- 10%, X7R, 0805; Manufacturer: MuRata; TaMin_C: -55°C; Polarized: N; SizeAreaWB_mm2: 6.75; Value1: Unknown; U/M: EA; Value: 0.47uF; TaMax_C: 125°C; SizeZ_mm: 1.45; SizeX_mm: 2; SizeY_mm: 1.25; Cap_Case: 0805; SizeArea_mm2: 2.5; CompType: Capacitor; AEC Category: Q200; Supplier Part Number 2: 81-GRM21BR72A474KA73; Publisher: Texas Instruments; Supplier 2: Mouser; TempCo: X7R; Published: 2008-06-19; RoHS: Y; MountType: SMT; Supplier 1: Digi-Key; PackageReference: 0805; Tolerance_%: 10%; Value2: 100V; LatestRevisionDate: 2017-03-09; PartNumber: GRM21BR72A474KA73L; AEC Qualified: ?; ComponentLink1Description: Datasheet link; Supplier Part Number 1: 490-3326-1-ND; Technology: Ceramic; ValueDisplayed: 0.47uF; ComponentLink1URL: http://search.murata.co.jp/Ceramy/PnsearchViewAction.do?HnOFG=ON&HnNFG=ON&SEL_CNT=50&sLang=en&sKey=GRM21BR72A474KA73L&x=9&y=9&search=startwith
footprint 0805_HV (0805 with 30mil clearance between pads)
footprint 0805M (0805 from SM-752 data)
footprint 0805 (0805 from SM-752 data)
footprint 0805L (0805 from SM-752 data)
footprint 0805_HV1 (Custom footprint based on analyzing multiple manufacturer recommendations)
pins: 1, 2

## CMP-0008377-2
designator C?, comment VDC_V: 10V  ValueDisplayed: 22uF  (hidden comment: GRM21BZ71A226ME15L)
CAP, CERM, 22 uF, 10 V, +/- 20%, X7R, 0805; Manufacturer: MuRata; SizeY_mm: 1.25; Cap_Case: 0805; SizeArea_mm2: 2.5; CompType: Capacitor; AEC Qualified: N; Cap_F: 22µF; AEC Category: Q200; TaMin_C: -55°C; SizeAreaWB_mm2: 6.75; Value1: Unknown; U/M: EA; Value: 22uF; TaMax_C: 125°C; SizeZ_mm: 1.45; SizeX_mm: 2; Value2: 10V; LatestRevisionDate: 2017-03-09; PartNumber: GRM21BZ71A226ME15L; ComponentLink1Description: Datasheet link; AEC Grade: N/A; Supplier Part Number 1: 81-GRM21BZ71A226ME5L; Technology: Ceramic; ComponentLink1URL: http://psearch.en.murata.com/capacitor/product/GRM21BZ71A226ME15%23.pdf; Publisher: Texas Instruments; Polarized: N; TempCo: X7R; Published: 2008-06-19; RoHS: Y; MountType: SMT; Supplier 1: Mouser; PackageReference: 0805; Tolerance_%: 20%
footprint 0805_HV (0805 with 30mil clearance between pads)
footprint 0805M (0805 from SM-752 data)
footprint 0805 (0805 from SM-752 data)
footprint 0805L (0805 from SM-752 data)
footprint 0805_HV1 (Custom footprint based on analyzing multiple manufacturer recommendations)
pins: 1, 2

## CMP-0008970-1
designator C?, comment VDC_V: 100V  ValueDisplayed: 1uF  (hidden comment: GRM31CR72A105KA01L)
CAP, CERM, 1 uF, 100 V, +/- 10%, X7R, 1206; Manufacturer: MuRata; TaMin_C: -55°C; Polarized: N; SizeAreaWB_mm2: 10.92; Value1: Unknown; U/M: EA; Value: 1uF; TaMax_C: 125°C; SizeZ_mm: 1.8; SizeX_mm: 3.2; SizeY_mm: 1.6; Cap_Case: 2220; SizeArea_mm2: 5.12; CompType: Capacitor; Cap_F: 1µF; AEC Category: Q200; ComponentLink1URL: http://search.murata.co.jp/Ceramy/PnsearchViewAction.do?HnOFG=ON&HnNFG=ON&SEL_CNT=50&sLang=en&sKey=GRM31CR72A105KA01L&x=9&y=9&search=startwith; Supplier Part Number 2: 81-GRM31CR72A105KA01; Publisher: Texas Instruments; Supplier 2: Mouser; Supplier Part Number 3: 1735543; TempCo: X7R; Supplier 3: Farnell; Published: 2008-06-19; RoHS: Y; MountType: SMT; Supplier 1: Digi-Key; PackageReference: 1206; Tolerance_%: 10%; Value2: 100V; LatestRevisionDate: 2017-03-09; PartNumber: GRM31CR72A105KA01L; AEC Qualified: ?; ComponentLink1Description: Datasheet link; Supplier Part Number 1: 490-3909-1-ND; Technology: Ceramic
footprint 1206_180
footprint 1206_180L (1206_180)
footprint 1206_180M (1206_180)
pins: 1, 2

## CMP-0008971-1
designator C?, comment VDC_V: 100V  ValueDisplayed: 2.2uF  (hidden comment: GRM31CR72A225KA73L)
CAP, CERM, 2.2 uF, 100 V, +/- 10%, X7R, 1206_190; Manufacturer: MuRata; TaMin_C: -55°C; Polarized: N; SizeAreaWB_mm2: 10.92; Value1: Unknown; U/M: EA; Value: 2.2uF; TaMax_C: 125°C; SizeZ_mm: 1.9; SizeX_mm: 3.2; SizeY_mm: 1.6; Cap_Case: 1206; SizeArea_mm2: 5.12; CompType: Capacitor; Cap_F: 2.2µF; AEC Category: Q200; ComponentLink1URL: http://search.murata.co.jp/Ceramy/image/img/w_hinm/L0005E.pdf; Publisher: Texas Instruments; TempCo: X7R; Published: 2008-06-19; RoHS: Y; MountType: SMT; Supplier 1: Digi-Key; PackageReference: 1206_190; Tolerance_%: 10%; Value2: 100V; LatestRevisionDate: 2017-03-09; PartNumber: GRM31CR72A225KA73L; AEC Qualified: ?; ComponentLink1Description: Datasheet link; Supplier Part Number 1: 490-7209-1-ND; Technology: Ceramic
footprint 1206_190
footprint 1206_190L (1206_190)
footprint 1206_190M (1206_190)
pins: 1, 2

## CMP-0009182-2
designator C?, comment VDC_V: 100V  ValueDisplayed: 4.7uF  (hidden comment: GRM32DC72A475KE01L)
CAP, CERM, 4.7 uF, 100 V, +/- 10%, X7S, 1210; Manufacturer: MuRata; TaMin_C: -55°C; Polarized: N; SizeAreaWB_mm2: 14.7; Value1: Unknown; U/M: EA; Value: 4.7uF; TaMax_C: 125°C; SizeZ_mm: 2.2; SizeX_mm: 3.2; SizeY_mm: 2.5; Cap_Case: 1210; SizeArea_mm2: 8; CompType: Capacitor; Cap_F: 4.7µF; AEC Category: Q200; Publisher: Texas Instruments; TempCo: X7S; Published: 2008-06-19; RoHS: Y; MountType: SMT; Supplier 1: Mouser; PackageReference: 1210; Tolerance_%: 10%; Value2: 100V; LatestRevisionDate: 2017-03-09; PartNumber: GRM32DC72A475KE01L; AEC Qualified: N; ComponentLink1Description: Datasheet link; AEC Grade: N/A; Supplier Part Number 1: 81-GRM32DC72A475KE1L; Technology: Ceramic; ComponentLink1URL: http://search.murata.co.jp/Ceramy/image/img/A01X/G101/ENG/GRM32DC72A475KE01-01.pdf
footprint 1210_220 (1210)
footprint 1210_220L (1210)
footprint 1210_220M (1210)
pins: 1, 2

## CMP-0009228-1
designator C?, comment VDC_V: 50V  ValueDisplayed: 4.7uF  (hidden comment: GRM32ER71H475KA88L)
CAP, CERM, 4.7 uF, 50 V, +/- 10%, X7R, 1210; Manufacturer: MuRata; TaMin_C: -55°C; ESR_ohm: 2m; Polarized: N; SizeAreaWB_mm2: 14.7; Value1: 0.002 ohm; U/M: EA; Value: 4.7uF; TaMax_C: 125°C; SizeZ_mm: 2.7; SizeX_mm: 3.2; SizeY_mm: 2.5; Cap_Case: 1210; SizeArea_mm2: 8; CompType: Capacitor; Cap_F: 4.7µF; AEC Category: Q200; ComponentLink1URL: http://search.murata.co.jp/Ceramy/PnsearchViewAction.do?HnOFG=ON&HnNFG=ON&SEL_CNT=50&sLang=en&sKey=GRM32ER71H475KA88L&x=9&y=9&search=startwith; Supplier Part Number 2: 81-GRM32R71H475KA88L; Publisher: Texas Instruments; Supplier 2: Mouser; Supplier Part Number 3: 1828841; TempCo: X7R; Supplier 3: Farnell; Published: 2008-06-19; RoHS: Y; MountType: SMT; Supplier 1: Digi-Key; PackageReference: 1210; Tolerance_%: 10%; Value2: 50V; LatestRevisionDate: 2017-03-09; PartNumber: GRM32ER71H475KA88L; AEC Qualified: ?; ComponentLink1Description: Datasheet link; Supplier Part Number 1: 490-1864-1-ND; Technology: Ceramic
footprint 1210_270 (1210)
footprint 1210_270L (1210)
footprint 1210_270M (1210)
pins: 1, 2

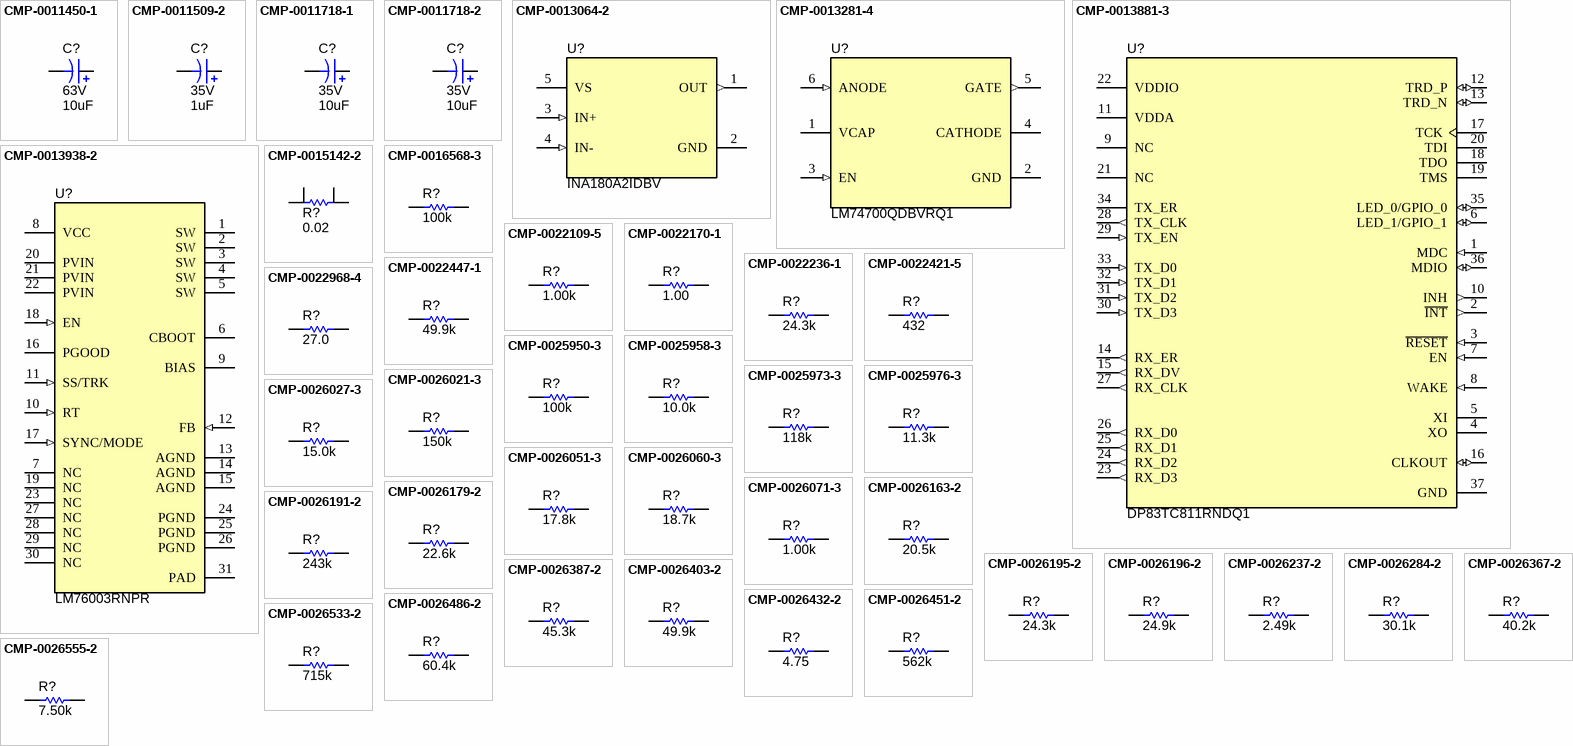
[diagram p1: symbols CMP-0011450-1 to CMP-0026555-2]

## CMP-0011450-1
designator C?, comment VDC_V: 63V  ValueDisplayed: 10uF  (hidden comment: 293D106X9063E2TE3)
CAP, TA, 10 uF, 63 V, +/- 10%, 1 ohm, SMD; Manufacturer: Vishay-Sprague; TaMin_C: -55°C; ESR_ohm: 1; Polarized: Y; SizeAreaWB_mm2: 10.92; Value1: 1 ohm; U/M: EA; Value: 10uF; TaMax_C: 125°C; SizeZ_mm: 1.8; SizeX_mm: 3.2; SizeY_mm: 1.6; SizeArea_mm2: 5.12; CompType: Capacitor; Cap_F: 10µF; IRMS_A: 580mA; AEC Category: Q200; ComponentLink1URL: http://www.vishay.com/docs/40002/293d.pdf; Publisher: Texas Instruments; RoHS: Y; MountType: SMT; Supplier 1: Digi-Key; LatestRevisionNote: Updated supplier links; PackageReference: 3216-18; Tolerance_%: 10%; Value2: 63V; LatestRevisionDate: 2017-03-09; PartNumber: 293D106X9063E2TE3; AEC Qualified: ?; Series: 293D; ComponentLink1Description: Datasheet link; Supplier Part Number 1: 718-1712-1-ND; Technology: TA
footprint 3216-18 (Based on AVX recommendation in http://www.avx.com/download/software/literature/AVX-Footprint-Library.pdf)
pins: 1 +, 2 -

## CMP-0011509-2
designator C?, comment VDC_V: 35V  ValueDisplayed: 1uF  (hidden comment: 293D105X9035B2TE3)
CAP, TA, 1 uF, 35 V, +/- 10%, 5 ohm, SMD; Manufacturer: Vishay-Sprague; TaMin_C: -55°C; ESR_ohm: 5; Polarized: Y; SizeAreaWB_mm2: 17.1; Value1: 5 ohm; U/M: EA; Value: 1uF; TaMax_C: 125°C; SizeZ_mm: 2.1; SizeX_mm: 3.5; SizeY_mm: 2.8; Cap_Case: B; SizeArea_mm2: 9.8; CompType: Capacitor; Cap_F: 1µF; IRMS_A: 130mA; AEC Category: Q200; Supplier Part Number 2: 74-293D105X9035B2TE3; Publisher: Texas Instruments; Supplier 2: Mouser; Supplier Part Number 3: 1754225; Supplier 3: Farnell; RoHS: Y; MountType: SMT; Supplier 1: Digi-Key; LatestRevisionNote: Updated supplier links; PackageReference: 3528-21; Tolerance_%: 10%; Value2: 35V; LatestRevisionDate: 2017-03-09; PartNumber: 293D105X9035B2TE3; AEC Qualified: ?; Series: 293D; ComponentLink1Description: Datasheet link; Supplier Part Number 1: 718-1117-1-ND; Technology: TA; ComponentLink1URL: http://www.vishay.com/docs/40002/293d.pdf
footprint 3528-21 (Medium Density IPC, based on Kemet datasheet 2016-10-20)
pins: 1 +, 2 -

## CMP-0011718-1
designator C?, comment VDC_V: 35V  ValueDisplayed: 10uF  (hidden comment: 593D106X9035D2TE3)
CAP, TA, 10 uF, 35 V, +/- 10%, 0.3 ohm, SMD; Manufacturer: Vishay-Sprague; TaMin_C: -55°C; ESR_ohm: 0.3; Polarized: Y; SizeAreaWB_mm2: 58.59; Value1: 0.3 ohm; U/M: EA; Value: 10uF; TaMax_C: 125°C; SizeZ_mm: 3.1; SizeX_mm: 7.3; SizeY_mm: 4.3; Cap_Case: D; SizeArea_mm2: 31.39; CompType: Capacitor; Cap_F: 10µF; IRMS_A: 710mA; AEC Category: Q200; ComponentLink1URL: http://www.vishay.com/docs/40005/593d.pdf; Supplier Part Number 2: 65K2991; Publisher: Texas Instruments; Supplier 2: Newark; Supplier Part Number 3: 74-593D106X9035D2TE3; Supplier 3: Mouser; RoHS: Y; MountType: SMT; Supplier 1: Digi-Key; LatestRevisionNote: Updated supplier links; PackageReference: 7343-31; Tolerance_%: 10%; Value2: 35V; LatestRevisionDate: 2017-03-09; PartNumber: 593D106X9035D2TE3; AEC Qualified: ?; Series: 593D; ComponentLink1Description: Datasheet link; Supplier Part Number 1: 718-1099-1-ND; Technology: TA
footprint 7343-31 (Medium Density based on Kemet T495 dimensions)
pins: 1 +, 2 -

## CMP-0011718-2
designator C?, comment VDC_V: 35V  ValueDisplayed: 10uF  (hidden comment: 593D106X9035D2TE3)
CAP, TA, 10 uF, 35 V, +/- 10%, 0.3 ohm, SMD; Manufacturer: Vishay-Sprague; TaMin_C: -55°C; ESR_ohm: 0.3; Polarized: Y; SizeAreaWB_mm2: 58.59; Value1: 0.3 ohm; U/M: EA; Value: 10uF; TaMax_C: 125°C; SizeZ_mm: 3.1; SizeX_mm: 7.3; SizeY_mm: 4.3; Cap_Case: D; SizeArea_mm2: 31.39; CompType: Capacitor; Cap_F: 10µF; IRMS_A: 710mA; AEC Category: Q200; ComponentLink1URL: http://www.vishay.com/docs/40005/593d.pdf; Supplier Part Number 2: 65K2991; Publisher: Texas Instruments; Supplier 2: Newark; Supplier Part Number 3: 74-593D106X9035D2TE3; Supplier 3: Mouser; RoHS: Y; MountType: SMT; Supplier 1: Digi-Key; LatestRevisionNote: Updated supplier links; PackageReference: 7343-31; Tolerance_%: 10%; Value2: 35V; LatestRevisionDate: 2017-03-09; PartNumber: 593D106X9035D2TE3; AEC Qualified: ?; Series: 593D; ComponentLink1Description: Datasheet link; Supplier Part Number 1: 718-1099-1-ND; Technology: TA
footprint 7343-31 (Medium Density based on Kemet T495 dimensions)
pins: 1 +, 2 -

## CMP-0013064-2
designator U?, comment INA180A2IDBV
Low- and High-Side Measurement, Multichannel, Voltage Output, Current-Sense Amplifier, DBV0005A (SOT-5); Manufacturer: Texas Instruments; SizeX_mm: 2.8; SizeY_mm: 2.9; CompType: IC; SizeZ_mm: 1.45; SizeArea_mm2: 8.12; SizeAreaWB_mm2: 14.82; U/M: EA; PackageDescription: SOT-5; PartNumber: INA180A2IDBV; ComponentLink1URL: https://sps06.itg.ti.com/sites/KMS/crossdivteams/altium/docs/ComponentDatasheets/INA180.pdf; ComponentLink1Description: Datasheet Link; LatestRevisionDate: 2017-03-09; Publisher: Texas Instruments; PackageReference: DBV0005A; MountType: SMT; Alternate Manufacturer: Texas Instruments
footprint DBV0005A_N (SOT23, 5-Leads, Body 2.9x1.6mm, Pitch 0.95mm, Lead Span 2.8mm, IPC Medium Density)
footprint DBV0005A_L (SOT23, 5-Leads, Body 2.9x1.6mm, Pitch 0.95mm, Lead Span 2.8mm, IPC High Density)
footprint DBV0005A_M (SOT23, 5-Leads, Body 2.9x1.6mm, Pitch 0.95mm, Lead Span 2.8mm, IPC Low Density)
pins: 1 OUT (out), 2 GND (power), 3 IN+ (in), 4 IN- (in), 5 VS (power)

## CMP-0013281-4
designator U?, comment LM74700QDBVRQ1
Low Iq Always ON Smart Diode Controller, DBV0006A (SOT-23-6); Alternate PartNumber: LM74700QDBVTQ1; Manufacturer: Texas Instruments; SizeZ_mm: 1.45; SizeX_mm: 2.8; SizeY_mm: 2.9; SizeArea_mm2: 8.12; CompType: IC; SizeAreaWB_mm2: 14.82; AEC Category: Q200; AEC Qualified: Y; ComponentLink1URL: http://www.ti.com/lit/ds/symlink/lm74700-q1.pdf; PackageDescription: SOT-23-6; PackageReference: DBV0006A; PartNumber: LM74700QDBVRQ1; ComponentLink1Description: Datasheet Link; MountType: SMT; Alternate Manufacturer: Texas Instruments; ComponentLink2Description: Product Folder; ComponentLink2URL: http://www.ti.com/product/lm74700-q1; ComponentLink3Description: Online Datasheet; ComponentLink3URL: http://www.ti.com/product/lm74700-q1/datasheet
footprint DBV0006A_N (SOT23, 6-Leads, Body 2.9x1.6mm, Pitch 0.95mm, Lead Span 2.8mm, IPC Medium Density)
footprint DBV0006A_M (SOT23, 6-Leads, Body 2.9x1.6mm, Pitch 0.95mm, Lead Span 2.8mm, IPC Low Density)
footprint DBV0006A_L (SOT23, 6-Leads, Body 2.9x1.6mm, Pitch 0.95mm, Lead Span 2.8mm, IPC High Density)
pins: 1 VCAP (power), 2 GND, 3 EN (in), 4 CATHODE (power), 5 GATE (out), 6 ANODE (in)

## CMP-0013881-3
designator U?, comment DP83TC811RNDQ1
DP83TC811Q1, RND0036A (VQFNP-36); Manufacturer: Texas Instruments; SizeZ_mm: 0.9; SizeX_mm: 6; SizeArea_mm2: 36; CompType: IC; U/M: EA; SizeAreaWB_mm2: 64; ComponentLink1URL: https://sps06.itg.ti.com/sites/KMS/crossdivteams/altium/docs/ComponentDatasheets/DP83TC811PrelimFootprint.pdf; SizeY_mm: 6; PackageDescription: VQFNP-36; Publisher: Texas Instruments; PackageReference: RND0036A; LatestRevisionDate: 2017-03-09; PartNumber: DP83TC811RNDQ1; ComponentLink1Description: Datasheet Link; MountType: SMT; Alternate Manufacturer: Texas Instruments
footprint RND0036A (TI)
pins: 1 MDC (in), 2 ~{INT} (out), 3 ~{RESET} (in), 4 XO, 5 XI, 6 LED_1/GPIO_1 (io), 7 EN (in), 8 WAKE (in), 9 NC (power), 10 INH (out), 11 VDDA (power), 12 TRD_P (io), 13 TRD_N (io), 14 RX_ER (out), 15 RX_DV (out), 16 CLKOUT (io), 17 TCK, 18 TDO, 19 TMS, 20 TDI, 21 NC (power), 22 VDDIO (power), 23 RX_D3 (out), 24 RX_D2 (out), 25 RX_D1 (out), 26 RX_D0 (out), 27 RX_CLK (out), 28 TX_CLK (out), 29 TX_EN (in), 30 TX_D3 (in), 31 TX_D2 (in), 32 TX_D1 (in), 33 TX_D0 (in), 34 TX_ER, 35 LED_0/GPIO_0 (io), 36 MDIO (io), 37 GND (power)

## CMP-0013938-2
designator U?, comment LM76003RNPR
SIMPLE SWITCHER 3.5V to 60V 3.5A Synchronous Step-Down Voltage Regulator, RNP0030B (WQFN-30); Manufacturer: Texas Instruments; Alternate PartNumber: LM76003RNPT; SizeX_mm: 4; SizeY_mm: 6; CompType: IC; SizeZ_mm: 0.8; SizeArea_mm2: 24; SizeAreaWB_mm2: 48; U/M: EA; PackageDescription: WQFN-30; PartNumber: LM76003RNPR; ComponentLink1URL: https://sps06.itg.ti.com/sites/KMS/crossdivteams/altium/docs/ComponentDatasheets/LM76003_prelimDS_Jan 26 2017.docx; ComponentLink1Description: Datasheet Link; LatestRevisionDate: 2017-03-09; Publisher: Texas Instruments; PackageReference: RNP0030B; MountType: SMT; Alternate Manufacturer: Texas Instruments
footprint RNP0030B (QFN, 30-Leads, Body 6x4mm, Pitch 0.5mm, Thermal Pad 1.8x4.5mm)
pins: 1 SW (power), 2 SW (power), 3 SW (power), 4 SW (power), 5 SW (power), 6 CBOOT (power), 7 NC, 8 VCC (power), 9 BIAS, 10 RT (in), 11 SS/TRK (in), 12 FB (in), 13 AGND (power), 14 AGND (power), 15 AGND (power), 16 PGOOD (oc), 17 SYNC/MODE (in), 18 EN (in), 19 NC, 20 PVIN (power), 21 PVIN (power), 22 PVIN (power), 23 NC, 24 PGND (power), 25 PGND (power), 26 PGND (power), 27 NC, 28 NC, 29 NC, 30 NC, 31 PAD (power)